# Altium schematic symbol library ST.SchLib: 20 symbols
Pins are listed as number, name and electrical type; pins without a type are passive.

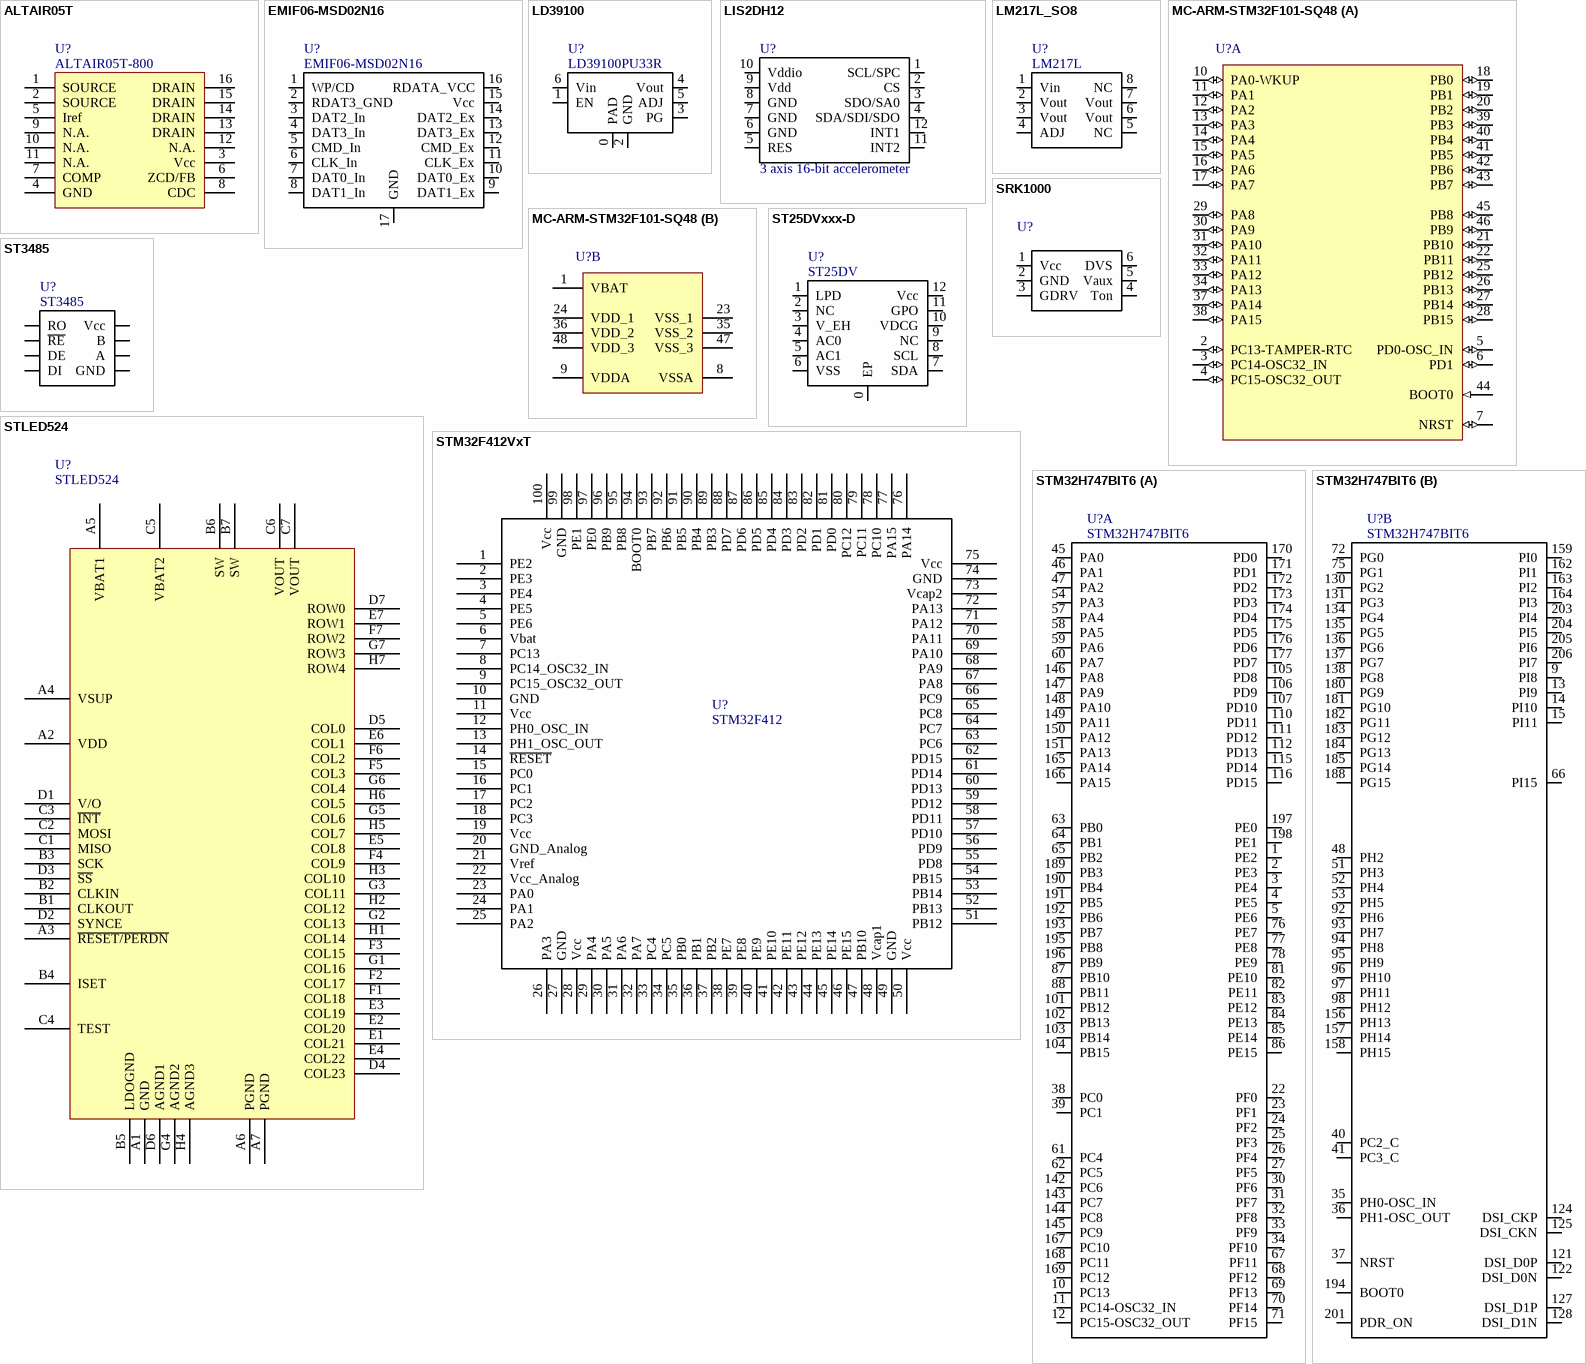
[diagram p0: symbols ALTAIR05T to STM32H747BIT6]

## ALTAIR05T
designator U?, comment ALTAIR05T-800
STMICROELECTRONICS - ALTAIR05T-800 - AC / DC CONVERTER, 800V, 166KHZ, 16SOIC; Catalog: Farnell; Catalog number: 2311349; Price: 0,983; Value: ALTAIR05T-800
footprint SO-16 1.27p
pins: 1 SOURCE, 2 SOURCE, 3 Vcc, 4 GND, 5 Iref, 6 ZCD/FB, 7 COMP, 8 CDC, 9 N.A., 10 N.A., 11 N.A., 12 N.A., 13 DRAIN, 14 DRAIN, 15 DRAIN, 16 DRAIN

## EMIF06-MSD02N16
designator U?, comment Part Number: EMIF06-MSD02N16  (hidden comment: EMIF06-MSD02N16, 6-line EMI filter and ESD protection)
Manufacturer: ST Microelectronics; Price 1: 0.9; Price 100: 0.55; Price 1000: 0.35
footprint Micro QFN 3.5x1.2-16L
pins: 1 WP/CD, 2 RDAT3_GND, 3 DAT2_In, 4 DAT3_In, 5 CMD_In, 6 CLK_In, 7 DAT0_In, 8 DAT1_In, 9 DAT1_Ex, 10 DAT0_Ex, 11 CLK_Ex, 12 CMD_Ex, 13 DAT3_Ex, 14 DAT2_Ex, 15 Vcc, 16 RDATA_VCC, 17 GND

## LD39100
designator U?, comment Part Number: LD39100PU33R  (hidden comment: LD39100, LDO, 3.3V, Iq=20uA, 5.5V max, 200mV dropout)
Manufacturer: STMicroelectronics; Price 1: 0.891; Price 100: 0.513; Price 1000: 0.377
footprint DFN6 (3x3mm) (DFN6 (3x3mm) with thermal pad, pitch 0.95)
pins: 0 PAD, 1 EN, 2 GND, 3 PG, 4 Vout, 5 ADJ, 6 Vin

## LIS2DH12
designator U?, comment 3 axis 16-bit accelerometer
Manufacturer: ST Microelectronics; Part Number: LIS2DH12; Same Footprint: LIS2HH12; LIS2DW12; IIS2DLPC
footprint LGA-12 (For accelerometers LIS2DH12 etc)
pins: 1 SCL/SPC, 2 CS, 3 SDO/SA0, 4 SDA/SDI/SDO, 5 RES, 6 GND, 7 GND, 8 GND, 9 Vdd, 10 Vddio, 11 INT2, 12 INT1

## LM217L_SO8
designator U?, comment Part Number: LM217L  (hidden comment: IC: voltage regulator; linear,adjustable; 1.2÷37V; 0.1A; SO8; SMD)
Manufacturer: ST; Price 1: 0.240; Price 100: 0.187; Price 1000: 0.150
footprint LT-S8-8_N (SOIC, 8-Leads, Body 4.9x3.9mm, Pitch 1.27mm, IPC Medium Density)
pins: 1 Vin, 2 Vout, 3 Vout, 4 ADJ, 5 NC, 6 Vout, 7 Vout, 8 NC

## MC-ARM-STM32F101-SQ48
designator U?
footprint LQFP48 0.5 7x7 (Thin QFP, 48-Leads, Body 7x7mm, Pitch 0.5mm, IPC Low Density)
part A pins: 2 PC13-TAMPER-RTC (io), 3 PC14-OSC32_IN (io), 4 PC15-OSC32_OUT (io), 5 PD0-OSC_IN (io), 6 PD1 (io), 7 NRST (io), 10 PA0-WKUP (io), 11 PA1 (io), 12 PA2 (io), 13 PA3 (io), 14 PA4 (io), 15 PA5 (io), 16 PA6 (io), 17 PA7 (io), 18 PB0 (io), 19 PB1 (io), 20 PB2 (io), 21 PB10 (io), 22 PB11 (io), 25 PB12 (io), 26 PB13 (io), 27 PB14 (io), 28 PB15 (io), 29 PA8 (io), 30 PA9 (io), 31 PA10 (io), 32 PA11 (io), 33 PA12 (io), 34 PA13 (io), 37 PA14 (io), 38 PA15 (io), 39 PB3 (io), 40 PB4 (io), 41 PB5 (io), 42 PB6 (io), 43 PB7 (io), 44 BOOT0 (in), 45 PB8 (io), 46 PB9 (io)
part B pins: 1 VBAT (power), 8 VSSA (power), 9 VDDA (power), 23 VSS_1 (power), 24 VDD_1 (power), 35 VSS_2 (power), 36 VDD_2 (power), 47 VSS_3 (power), 48 VDD_3 (power)

## SRK1000
designator U?, comment Adaptive synchronous rectification controller for flyback converter  (value not drawn)
Manufacturer: ST Microelectronics; Part Number: SRK1000B; Price 1: 0.74; Price 100: 0.5; Price 1000: 0.286
footprint SOT23-6BL (SOT23, 6-Leads, Body 3,1x3,2mm (max), Pitch 0,95mm, IPC Medium Density)
pins: 1 Vcc, 2 GND, 3 GDRV, 4 Ton, 5 Vaux, 6 DVS

## ST25DVxxx-D
designator U?, comment ST25DV
ST25DV NFC Tag, 12-pin DFP; Manufacturer: ST; Part Number: ST25DV04K-JFR6D3; Alternative Part Number: ST25DV04KC-JF6D3; Price 1: 0.93; Price 100: 0.74; Price 1000: 0.4
footprint UFDFPN12
pins: 0 EP, 1 LPD, 2 NC, 3 V_EH, 4 AC0, 5 AC1, 6 VSS, 7 SDA, 8 SCL, 9 NC, 10 VDCG, 11 GPO, 12 Vcc

## ST3485
designator U?
ST3485, RS485 transceiver, 3.3V; Manufacturer: STMicroelectronics; Part Number: ST3485
footprint SO8 150mil Narrow Package (SOIC, 8-Leads, Body 5,0x4,0mm (max), Pitch 1,27mm, IPC Medium Density)
pins: 1 RO, 2 ~{RE}, 3 DE, 4 DI, 5 GND, 6 A, 7 B, 8 Vcc

## STLED524
designator U?
ST Intelligent matrix LED display driver STLED524; Value: STLED524; Catalog: *; Price: *; Catalog number: *
footprint CSP 56 bumps (BGA, 56-Leads, Body 3,0x3,4mm,  Pitch 0,40mm)
pins: A1 GND, A2 VDD, A3 ~{RESET/PERDN}, A4 VSUP, A5 VBAT1, A6 PGND, A7 PGND, B1 CLKOUT, B2 CLKIN, B3 SCK, B4 ISET, B5 LDOGND, B6 SW, B7 SW, C1 MISO, C2 MOSI, C3 ~{INT}, C4 TEST, C5 VBAT2, C6 VOUT, C7 VOUT, D1 V/O, D2 SYNCE, D3 ~{SS}, D4 COL23, D5 COL0, D6 AGND1, D7 ROW0, E1 COL21, E2 COL20, E3 COL19, E4 COL22, E5 COL8, E6 COL1, E7 ROW1, F1 COL18, F2 COL17, F3 COL15, F4 COL9, F5 COL3, F6 COL2, F7 ROW2, G1 COL16, G2 COL13, G3 COL11, G4 AGND2, G5 COL6, G6 COL4, G7 ROW3, H1 COL14, H2 COL12, H3 COL10, H4 AGND3, H5 COL7, H6 COL5, H7 ROW4

## STM32F412VxT
designator U?, comment STM32F412
footprint LQFP100
pins: 1 PE2, 2 PE3, 3 PE4, 4 PE5, 5 PE6, 6 Vbat, 7 PC13, 8 PC14_OSC32_IN, 9 PC15_OSC32_OUT, 10 GND, 11 Vcc, 12 PH0_OSC_IN, 13 PH1_OSC_OUT, 14 ~{RESET}, 15 PC0, 16 PC1, 17 PC2, 18 PC3, 19 Vcc, 20 GND_Analog, 21 Vref, 22 Vcc_Analog, 23 PA0, 24 PA1, 25 PA2, 26 PA3, 27 GND, 28 Vcc, 29 PA4, 30 PA5, 31 PA6, 32 PA7, 33 PC4, 34 PC5, 35 PB0, 36 PB1, 37 PB2, 38 PE7, 39 PE8, 40 PE9, 41 PE10, 42 PE11, 43 PE12, 44 PE13, 45 PE14, 46 PE15, 47 PB10, 48 Vcap1, 49 GND, 50 Vcc, 51 PB12, 52 PB13, 53 PB14, 54 PB15, 55 PD8, 56 PD9, 57 PD10, 58 PD11, 59 PD12, 60 PD13, 61 PD14, 62 PD15, 63 PC6, 64 PC7, 65 PC8, 66 PC9, 67 PA8, 68 PA9, 69 PA10, 70 PA11, 71 PA12, 72 PA13, 73 Vcap2, 74 GND, 75 Vcc, 76 PA14, 77 PA15, 78 PC10, 79 PC11, 80 PC12, 81 PD0, 82 PD1, 83 PD2, 84 PD3, 85 PD4, 86 PD5, 87 PD6, 88 PD7, 89 PB3, 90 PB4, 91 PB5, 92 PB6, 93 PB7, 94 BOOT0, 95 PB8, 96 PB9, 97 PE0, 98 PE1, 99 GND, 100 Vcc

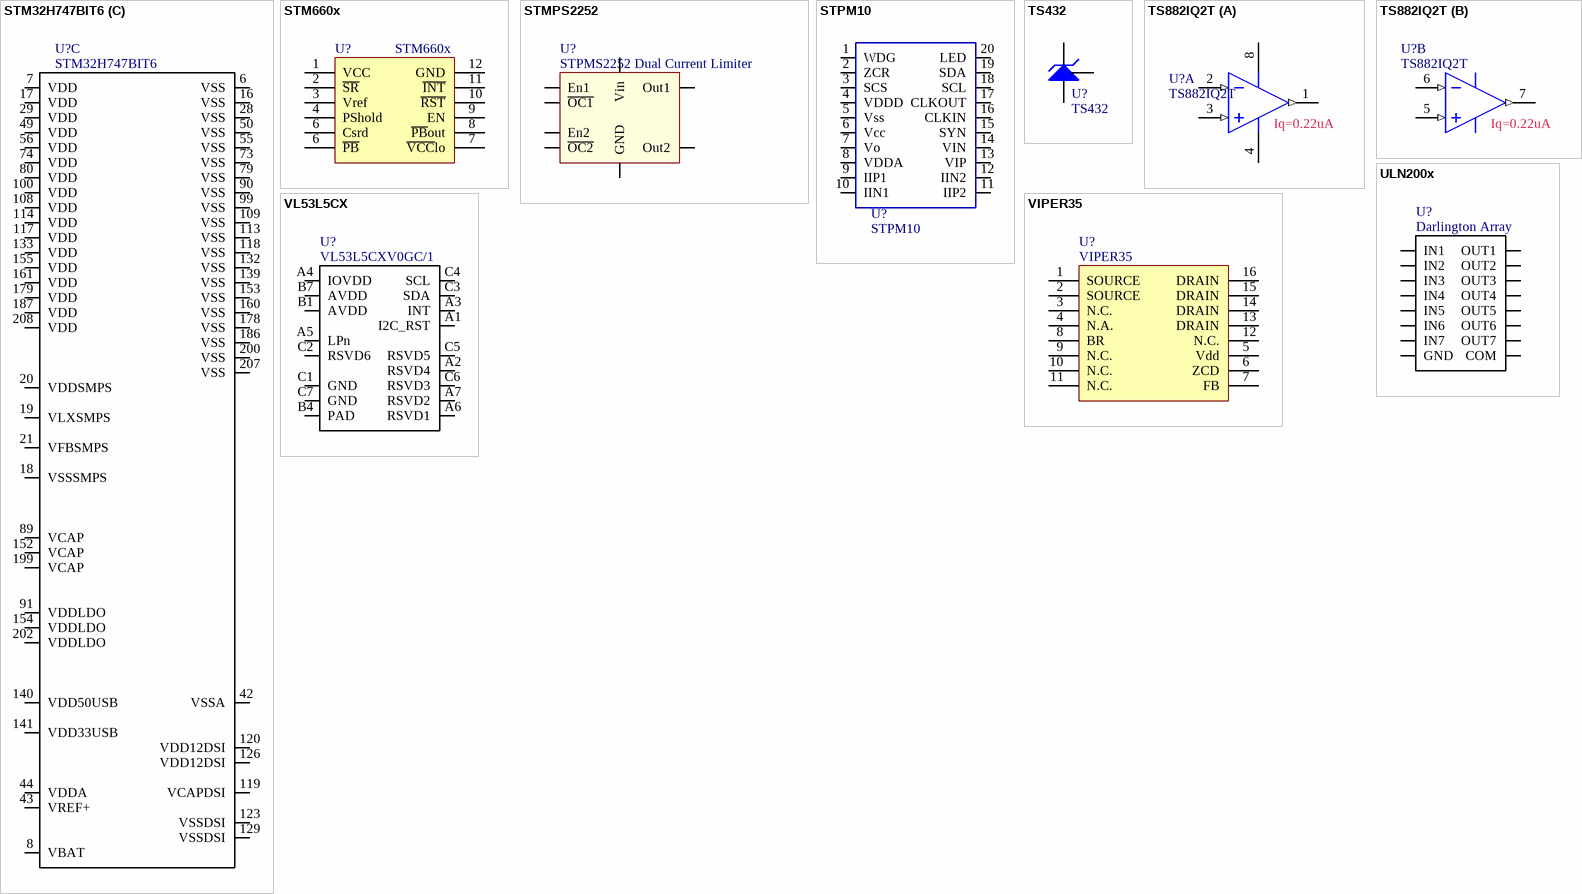
[diagram p1: symbols STM32H747BIT6 to VL53L5CX]

## STM32H747BIT6
designator U?, comment Part Number: STM32H747BIT6  (hidden comment: STM32H747BIT6 MCU)
Manufacturer: STMicroelectronics; Price 1: 18.05; Price 100: 14.02; Price 1000: 12.47
footprint LQFP208
part A pins: 1 PE2, 2 PE3, 3 PE4, 4 PE5, 5 PE6, 10 PC13, 11 PC14-OSC32_IN, 12 PC15-OSC32_OUT, 22 PF0, 23 PF1, 24 PF2, 25 PF3, 26 PF4, 27 PF5, 30 PF6, 31 PF7, 32 PF8, 33 PF9, 34 PF10, 38 PC0, 39 PC1, 45 PA0, 46 PA1, 47 PA2, 54 PA3, 57 PA4, 58 PA5, 59 PA6, 60 PA7, 61 PC4, 62 PC5, 63 PB0, 64 PB1, 65 PB2, 67 PF11, 68 PF12, 69 PF13, 70 PF14, 71 PF15, 76 PE7, 77 PE8, 78 PE9, 81 PE10, 82 PE11, 83 PE12, 84 PE13, 85 PE14, 86 PE15, 87 PB10, 88 PB11, 101 PB12, 102 PB13, 103 PB14, 104 PB15, 105 PD8, 106 PD9, 107 PD10, 110 PD11, 111 PD12, 112 PD13, 115 PD14, 116 PD15, 142 PC6, 143 PC7, 144 PC8, 145 PC9, 146 PA8, 147 PA9, 148 PA10, 149 PA11, 150 PA12, 151 PA13, 165 PA14, 166 PA15, 167 PC10, 168 PC11, 169 PC12, 170 PD0, 171 PD1, 172 PD2, 173 PD3, 174 PD4, 175 PD5, 176 PD6, 177 PD7, 189 PB3, 190 PB4, 191 PB5, 192 PB6, 193 PB7, 195 PB8, 196 PB9, 197 PE0, 198 PE1
part B pins: 9 PI8, 13 PI9, 14 PI10, 15 PI11, 35 PH0-OSC_IN, 36 PH1-OSC_OUT, 37 NRST, 40 PC2_C, 41 PC3_C, 48 PH2, 51 PH3, 52 PH4, 53 PH5, 66 PI15, 72 PG0, 75 PG1, 92 PH6, 93 PH7, 94 PH8, 95 PH9, 96 PH10, 97 PH11, 98 PH12, 121 DSI_D0P, 122 DSI_D0N, 124 DSI_CKP, 125 DSI_CKN, 127 DSI_D1P, 128 DSI_D1N, 130 PG2, 131 PG3, 134 PG4, 135 PG5, 136 PG6, 137 PG7, 138 PG8, 156 PH13, 157 PH14, 158 PH15, 159 PI0, 162 PI1, 163 PI2, 164 PI3, 180 PG9, 181 PG10, 182 PG11, 183 PG12, 184 PG13, 185 PG14, 188 PG15, 194 BOOT0, 201 PDR_ON, 203 PI4, 204 PI5, 205 PI6, 206 PI7
part C pins: 6 VSS, 7 VDD, 8 VBAT, 16 VSS, 17 VDD, 18 VSSSMPS, 19 VLXSMPS, 20 VDDSMPS, 21 VFBSMPS, 28 VSS, 29 VDD, 42 VSSA, 43 VREF+, 44 VDDA, 49 VDD, 50 VSS, 55 VSS, 56 VDD, 73 VSS, 74 VDD, 79 VSS, 80 VDD, 89 VCAP, 90 VSS, 91 VDDLDO, 99 VSS, 100 VDD, 108 VDD, 109 VSS, 113 VSS, 114 VDD, 117 VDD, 118 VSS, 119 VCAPDSI, 120 VDD12DSI, 123 VSSDSI, 126 VDD12DSI, 129 VSSDSI, 132 VSS, 133 VDD, 139 VSS, 140 VDD50USB, 141 VDD33USB, 152 VCAP, 153 VSS, 154 VDDLDO, 155 VDD, 160 VSS, 161 VDD, 178 VSS, 179 VDD, 186 VSS, 187 VDD, 199 VCAP, 200 VSS, 202 VDDLDO, 207 VSS, 208 VDD

## STM660x
designator U?
Smart push-button on/off controller; Catalog: *; Catalog number: *; Price: *
pins: 1 VCC, 2 ~{SR}, 3 Vref, 4 PShold, 6 Csrd, 6 ~{PB}, 7 ~{VCC}lo, 8 ~{PB}out, 9 EN, 10 ~{RST}, 11 ~{INT}, 12 GND

## STMPS2252
designator U?, comment STPMS2252 Dual Current Limiter
footprint TSSOP-8 Narrow, pich 0.65 (TSOP, 8-Leads, Body 3.1x3.1mm (max), Pitch 0.65mm)
pins: 1 GND, 2 Vin, 3 En1, 4 En2, 5 ~{OC2}, 6 Out2, 7 Out1, 8 ~{OC1}

## STPM10
designator U?
footprint TSOP65P640X120-20N (TSOP, 20-Leads, Body 6,50x4,40mm, Pitch 0,65mm, IPC Medium Density)
pins: 1 WDG, 2 ZCR, 3 SCS, 4 VDDD, 5 Vss, 6 Vcc, 7 Vo, 8 VDDA, 9 IIP1, 10 IIN1, 11 IIP2, 12 IIN2, 13 VIP, 14 VIN, 15 SYN, 16 CLKIN, 17 CLKOUT, 18 SCL, 19 SDA, 20 LED

## TS432
designator U?, comment Part Number: TS432  (hidden comment: 1.24V shunt refernce, SOT23)
Manufacturer: STMicroelectronics; Price 1: *; Price 100: *; Price 1000: *
footprint SOT23-3-IPC (SOT23, 3-Leads, Body 2.9x1.3mm, Pitch 0.95mm, Lead Span 2.5mm, IPC Recommended)
pins: 1 Ref, 2 K, 3 A

## TS882IQ2T
designator U?
STMICROELECTRONICS  TS882IST  NANOPOWER COMP, DUAL, 9US, MINISOIC-8; Catalog number: 2462685; Value: TS882IST; Price: 0,68
footprint miniSO-8 (SOIC, 8-Leads, Body 3,00x2,95mm, Pitch 1,27mm, IPC Medium Density)
part A pins: 1 OUT (out), 2 -IN (in), 3 +IN (in), 4 -VS (power), 8 +VS (power)
part B pins: 5 +IN (in), 6 -IN (in), 7 OUT (out)
part A text: Iq=0.22uA
part B text: Iq=0.22uA

## ULN200x
designator U?, comment Darlington Array
Manufacturer: STMicroelectronics; Part Number: ULN200x
footprint SO-16 1.27p
pins: 1 IN1, 2 IN2, 3 IN3, 4 IN4, 5 IN5, 6 IN6, 7 IN7, 8 GND, 9 COM, 10 OUT7, 11 OUT6, 12 OUT5, 13 OUT4, 14 OUT3, 15 OUT2, 16 OUT1

## VIPER35
designator U?
VIPER35 Quasi-resonant off-line flyback converter IC, SO16; Manufacturer: ST Microelectronics; Part Number: VIPER35HD; Price 1: 1.7; Price 100: 1.2; Price 1000: 0.85
footprint SO-16 1.27p
pins: 1 SOURCE, 2 SOURCE, 3 N.C., 4 N.A., 5 Vdd, 6 ZCD, 7 FB, 8 BR, 9 N.C., 10 N.C., 11 N.C., 12 N.C., 13 DRAIN, 14 DRAIN, 15 DRAIN, 16 DRAIN

## VL53L5CX
designator U?, comment VL53L5CXV0GC/1
Time-of-Flight (ToF) 8x8 multizone ranging sensor; Manufacturer: STMicroelectronics; Part Number: VL53L5CXV0GC/1; Price 1: 7.84; Price 100: 4.89; Price 1000: 4.33
footprint VL53L5CX (6.4 x 3.0 x 1.5 mm LGA)
pins: A1 I2C_RST, A2 RSVD4, A3 INT, A4 IOVDD, A5 LPn, A6 RSVD1, A7 RSVD2, B1 AVDD, B4 PAD, B7 AVDD, C1 GND, C2 RSVD6, C3 SDA, C4 SCL, C5 RSVD5, C6 RSVD3, C7 GND